# EAGLE library part SN65HVD10D (library SN65HVD10D)
3.3-V RS-485 TRANSCEIVERS
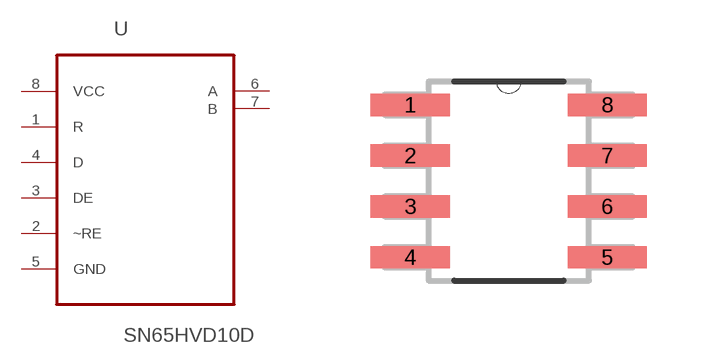
[diagram p0: symbol with the pads of SOIC127P600X175-8N; footprint SOIC127P600X175-8N]

Designator prefix U

## SN65HVD10D (Availability: Unavailable; Description: Line Transceiver 1TR 1 Transceiver 1 Receiver 8-Pin SOIC Tube; MF: Texas Instruments; MP: SN65HVD10D; Package: SOIC-8 Texas Instruments; Price: None)  [SOIC127P600X175-8N]
1  R  in
2  ~RE  in
3  DE  in
4  D  in
5  GND  pas
6  A  out
7  B  out
8  VCC  pwr

## Footprint SOIC127P600X175-8N (pad centres in mm)
smd 1.981 x 0.559: 1 -2.464,1.905; 2 -2.464,0.635; 3 -2.464,-0.635; 4 -2.464,-1.905; 5 2.464,-1.905; 6 2.464,-0.635; 7 2.464,0.635; 8 2.464,1.905